# Altium schematic symbol library BR24G02FVT3GE2.SchLib: 1 symbol
Pins are listed as number, name and electrical type; pins without a type are passive.

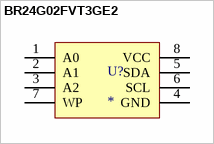
[diagram p0: symbol BR24G02FVT3GE2]

## BR24G02FVT3GE2
designator U?
pins: 1 A0, 2 A1, 3 A2, 4 GND, 5 SDA, 6 SCL, 7 WP, 8 VCC